# Altium integrated library Altium_Mech.IntLib: 8 symbols
Pins are listed as number, name and electrical type; pins without a type are passive.

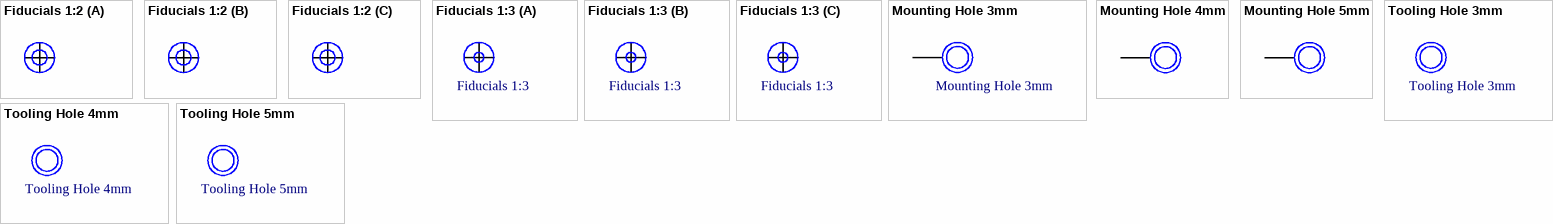
[diagram p0: symbols Fiducials 1:2 to Tooling Hole 5mm]

## Fiducials 1:2
designator *  (value not drawn)
footprint Fiducials 1:2

## Fiducials 1:3
designator *
footprint Fiducials 1:3

## Mounting Hole 3mm
designator H?
footprint 3mm with via
pins: 0

## Mounting Hole 4mm
designator H?  (value not drawn)
footprint 4mm with via
pins: 0

## Mounting Hole 5mm
designator H?  (value not drawn)
footprint 5mm with via
pins: 0

## Tooling Hole 3mm
designator H?
footprint 3mm

## Tooling Hole 4mm
designator H?
footprint 4mm

## Tooling Hole 5mm
designator H?
footprint 5mm